# EAGLE library part MICROSD (library zortness)
MicroSD Connector DigiKey <http://www.digikey.com/product-detail/en/693071010811/732-3819-1-ND/3124603> datasheet <http://katalog.we-online.de/em/datasheet/693071010811.pdf> Micro-SD / Transflash card holder with SPI pinout For the 3M # 2908-05WB-MG and/or 4UCON #19656 push-push type
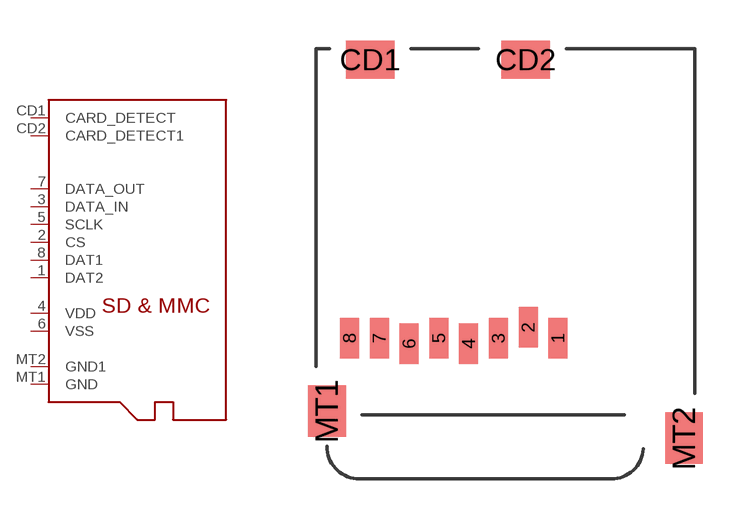
[diagram p0: symbol with the pads of MICROSD; footprint MICROSD]

Designator prefix -

## MICROSD  [MICROSD]
1  DAT2
2  CS  in
3  DATA_IN  in
4  VDD  sup
5  SCLK  in
6  VSS  sup
7  DATA_OUT  out
8  DAT1
CD1  CARD_DETECT  pas
CD2  CARD_DETECT1  pas
MT1  GND  sup
MT2  GND1  sup

## Footprint MICROSD (pad centres in mm)
MicroSD Connector DigiKey <http://www.digikey.com/product-detail/en/693071010811/732-3819-1-ND/3124603> datasheet <http://katalog.we-online.de/em/datasheet/693071010811.pdf>
smd 0.7 x 1.5: 1 8.94,-10.7; 2 7.84,-10.3; 3 6.74,-10.7; 4 5.64,-10.9; 5 4.54,-10.7; 6 3.44,-10.9; 7 2.34,-10.7; 8 1.24,-10.7
smd 1.8 x 1.4: CD1 2,-0.4; CD2 7.75,-0.4
smd 1.4 x 1.9: MT1 0.4,-13.4; MT2 13.6,-14.4